# Altium footprint library Hub.PcbLib: 20 footprints (part 2 of 2)
Each footprint in its own frame and in the unit in brackets; x right, y up, seen from the top. Pads: shape width x height; smd on the part's side, far side on the other; paste and mask are expansions set on the pad; w line width, h text height; cw(c..) or ccw(c..) is an arc to the next point about the centre after c.
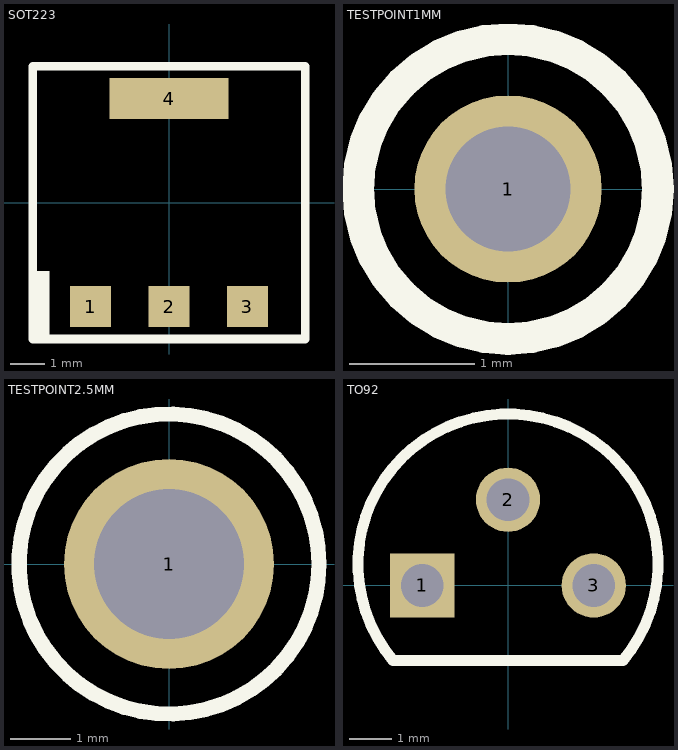
[diagram p1: the footprints below, top view; thin cyan lines are the x and y axes]

## SOT223 [mm]
pads (4):
  rect 1.2x1.2 smd: 1(-2.3,-3.05) 2(0,-3.05) 3(2.3,-3.05)
  rect 3.5x1.2 smd: 4(0,3.05)
Top Overlay:
  rectangle: -4,-4 -3.5,-2
  lines w0.25: -4,-4 4,-4 4,4 -4,4 -4,-4
3D body: height 0.25, standoff -7, extent -3.35,3.7 -3.35,3.7
3D body "SOT-223.STEP": height -0.4, standoff -2.1, extent -3.25,-3.445 3.25,3.445

## TESTPOINT1MM [mm]
pads (1):
  round 1.5 hole 1: 1(0,0)
Top Overlay:
  circle w0.254: c0,0 r1.2
Bottom Overlay:
  circle w0.254: c0,0 r1.2

## TESTPOINT2.5MM [mm]
pads (1):
  round 3.5 hole 2.5: 1(0,0)
Top Overlay:
  circle w0.254: c0,0 r2.5
Bottom Overlay:
  circle w0.254: c0,0 r2.5

## TO92 [mm]
pads (3):
  rect 1.5x1.5 hole 1: 1(-2,0)
  round 1.5 hole 1: 2(0,2) 3(2,0)
Top Overlay:
  lines w0.25: -2.681,-1.75 2.681,-1.75
  lines w0.254: -2.681,-1.75 cw(c0,0.5) 2.681,-1.75
3D body "TO-92.stp": height 6.18, standoff -3, extent -2.294,-0.64 2.278,2.92